# Altium schematic symbol library RMCF0603FT115K.SchLib: 1 symbol
Pins are listed as number, name and electrical type; pins without a type are passive.

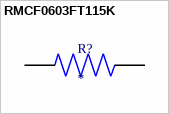
[diagram p0: symbol RMCF0603FT115K]

## RMCF0603FT115K
designator R?
MF: {'manufacturer': u'Stackpole Electronics Inc'}; MP: RMCF0603FT115K; Package: None; Price: None; Value: *; Availability: Unavailable
footprint RESC1508X55N
pins: 1, 2